# EAGLE library part MPT16 (library pluggable_terminal_blocks)
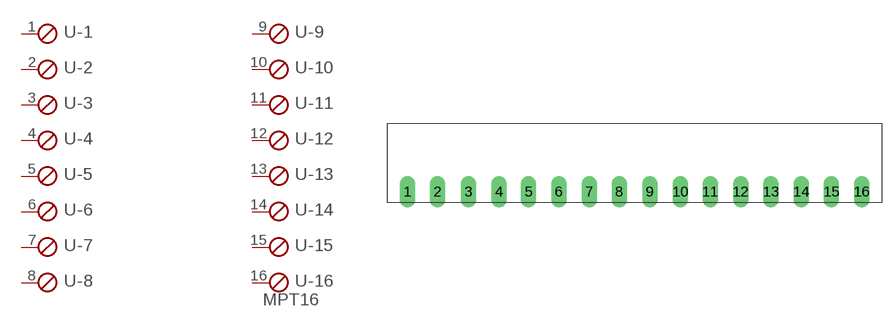
[diagram p9: symbol with the pads of 16POL35; footprint 16POL35]

Designator prefix -; gates -1=SKB -2=SKB -3=SKB -4=SKB -5=SKB -6=SKB -7=SKB -8=SKB -9=SKB -10=SKB -11=SKB -12=SKB -13=SKB -14=SKB -15=SKB -16=SKBV

## MPT16  [16POL35]
1  -1:1  pas
2  -2:1  pas
3  -3:1  pas
4  -4:1  pas
5  -5:1  pas
6  -6:1  pas
7  -7:1  pas
8  -8:1  pas
9  -9:1  pas
10  -10:1  pas
11  -11:1  pas
12  -12:1  pas
13  -13:1  pas
14  -14:1  pas
15  -15:1  pas
16  -16:1  pas

## Footprint 16POL35 (pad centres in mm)
drill 1.2 long: 1 -26.27,0; 2 -22.78,0; 3 -19.24,0; 4 -15.7,0; 5 -12.26,0; 6 -8.77,0; 7 -5.23,0; 8 -1.79,0; 9 1.75,0; 10 5.29,0; 11 8.73,0; 12 12.27,0; 13 15.77,0; 14 19.27,0; 15 22.77,0; 16 26.27,0